# Altium footprint library Ceramic Capacitors 0201 25V.PcbLib: 2 footprints
Each footprint in its own frame and in the unit in brackets; x right, y up, seen from the top. Pads: shape width x height; smd on the part's side, far side on the other; paste and mask are expansions set on the pad; w line width, h text height; cw(c..) or ccw(c..) is an arc to the next point about the centre after c.
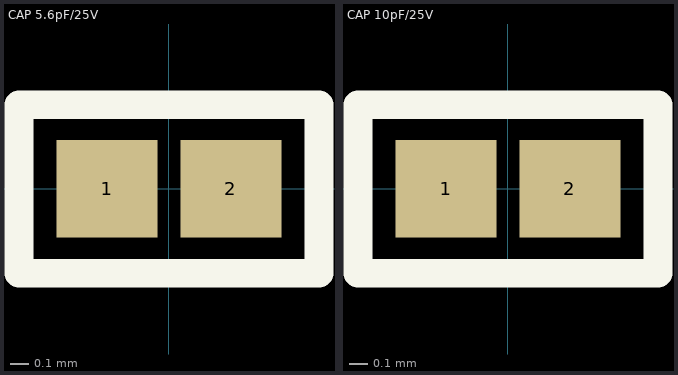
[diagram p0: the footprints below, top view; thin cyan lines are the x and y axes]

## CAP 5.6pF/25V [mm] "5.6pF ±0.25pF 25V Ceramic Capacitor C0G, NP0 0201 (0603 Metric)"
height 0.38
pads (2):
  rect 0.54x0.52 smd: 1(-0.33,0) 2(0.33,0)
Top Overlay:
  lines w0.152: -0.8,-0.45 0.8,-0.45 0.8,0.45 -0.8,0.45 -0.8,-0.45
3D body "Capacitor SMD 0201.step": height 0.31, standoff 0.01, extent -0.3,-0.15 0.3,0.15
3D body: height 1.88, standoff -1.88, extent 0,0 0,0
3D body: height 1.88, standoff -1.88, extent 0,0 0,0
3D body: height 1.88, standoff -1.88, extent -0.508,0.381 -0.508,0.381

## CAP 10pF/25V [mm] "10pF ±5% 25V Ceramic Capacitor C0G, NP0 0201 (0603 Metric)"
height 0.38
pads (2):
  rect 0.54x0.52 smd: 1(-0.33,0) 2(0.33,0)
Top Overlay:
  lines w0.152: -0.8,-0.45 -0.8,0.45 0.8,0.45 0.8,-0.45 -0.8,-0.45
3D body: height 1.88, standoff -1.88, extent -0.508,0.381 -0.508,0.381
3D body: height 1.88, standoff -1.88, extent 0,0 0,0
3D body: height 1.88, standoff -1.88, extent 0,0 0,0
3D body "Capacitor SMD 0201.step": height 0.31, standoff 0.01, extent -0.3,-0.15 0.3,0.15